# Altium schematic symbol library HT-191NB-YYYY.SchLib: 1 symbol
Pins are listed as number, name and electrical type; pins without a type are passive.

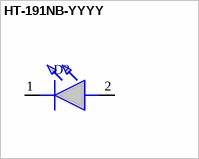
[diagram p0: symbol HT-191NB-YYYY]

## HT-191NB-YYYY
designator D?
Top-emitting 0603 (1608) HT-191 Series; Manufacturer_Name: Harvatek; Geometry.Height: 0.6mm; Manufacturer_Part_Number: HT-191NB-YYYY; Mouser Part Number: *; Mouser Price/Stock: *; Arrow Part Number: *; Arrow Price/Stock: *; Mouser Testing Part Number: *; Mouser Testing Price/Stock: *; Datasheet Link: https://datasheet.octopart.com/HT-191TW-Harvatek-datasheet-11745710.pdf
footprint LEDC1608X60N
pins: 1 K, 2 A